# Altium footprint library SIGMA_2D.PcbLib: 200 footprints (part 12 of 13)
Each footprint in its own frame and in the unit in brackets; x right, y up, seen from the top. Pads: shape width x height; smd on the part's side, far side on the other; paste and mask are expansions set on the pad; w line width, h text height; cw(c..) or ccw(c..) is an arc to the next point about the centre after c.
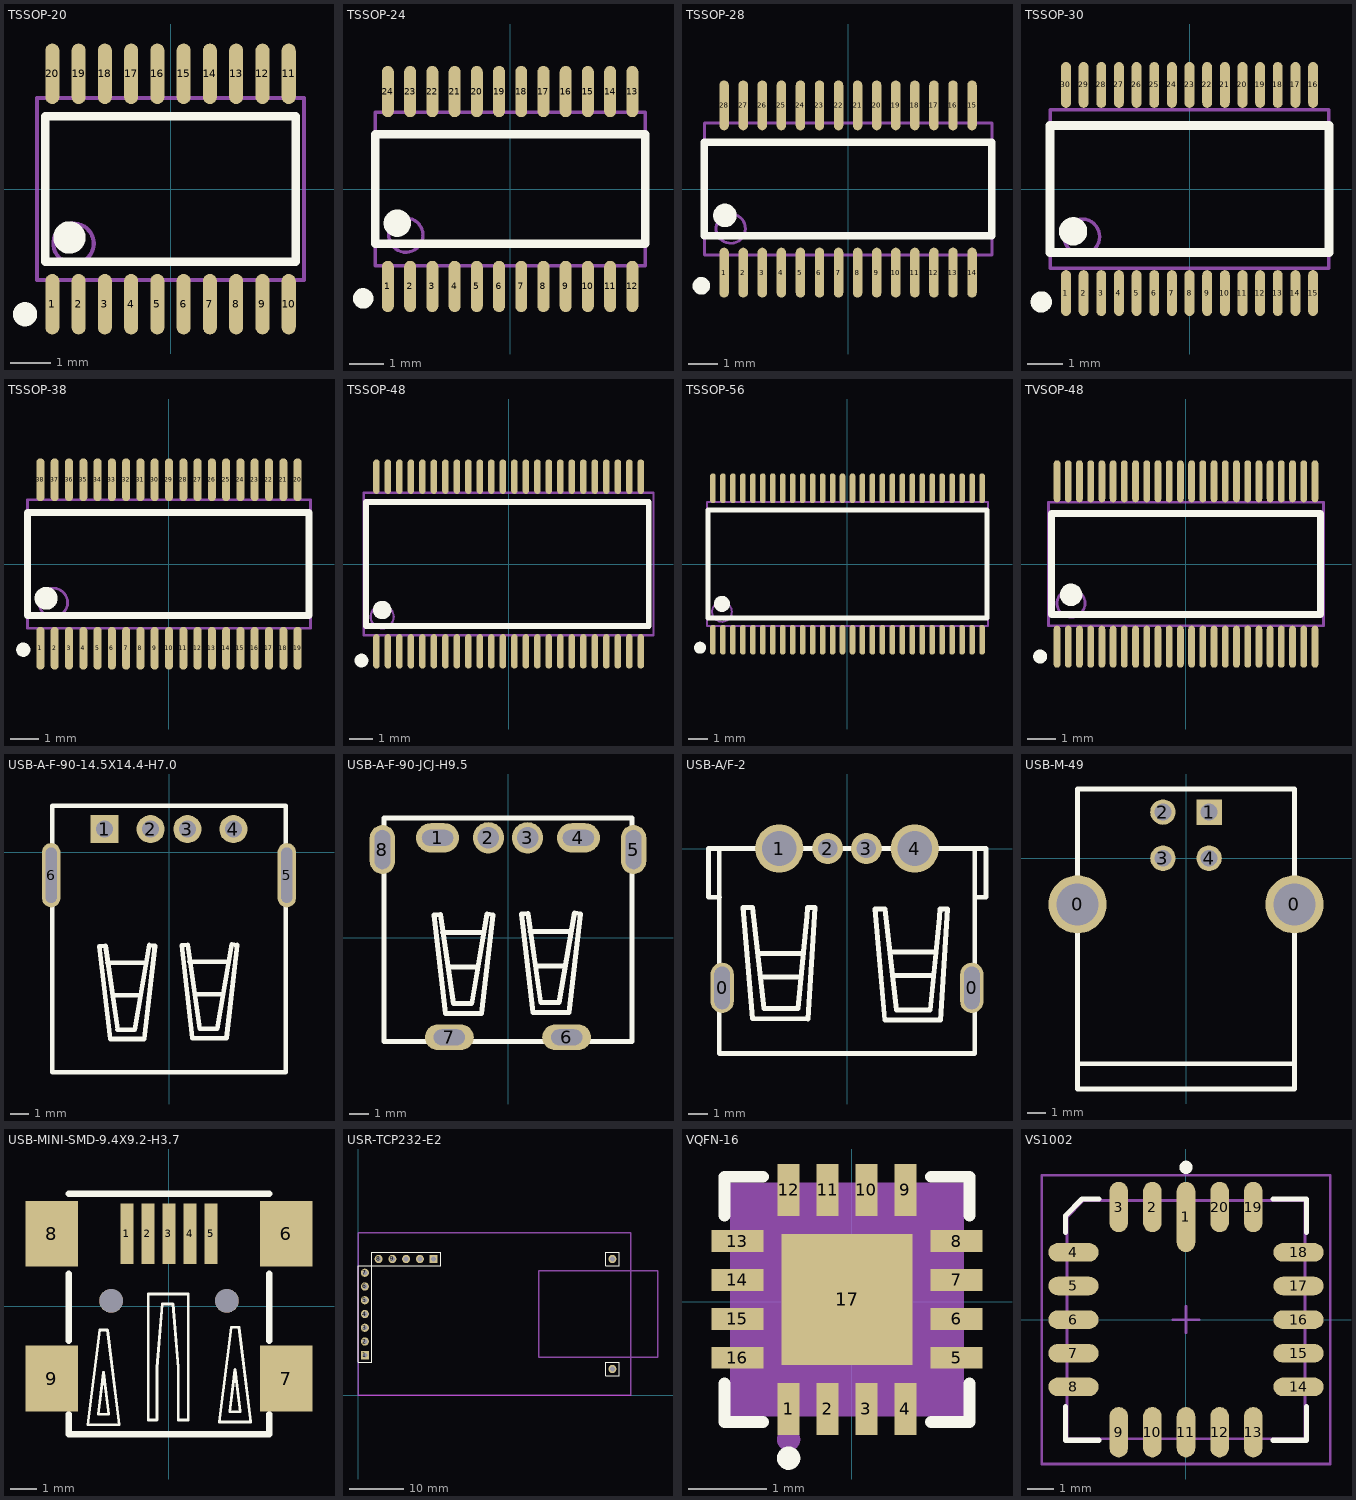
[diagram p11: the footprints below, top view; thin cyan lines are the x and y axes]

## TSSOP-20 [mm]
pads (20):
  oval 0.35x1.5 smd: 1(-2.925,-2.85) 2(-2.275,-2.85) 3(-1.625,-2.85) 4(-0.975,-2.85) 5(-0.325,-2.85) 6(0.325,-2.85) 7(0.975,-2.85) 8(1.625,-2.85) 9(2.275,-2.85) 10(2.925,-2.85) 11(2.925,2.85) 12(2.275,2.85) 13(1.625,2.85) 14(0.975,2.85) 15(0.325,2.85) 16(-0.325,2.85) 17(-0.975,2.85) 18(-1.625,2.85) 19(-2.275,2.85) 20(-2.925,2.85)
Top Overlay:
  circle w0.4: c-2.5,-1.2 r0.2
  circle w0.3: c-3.6,-3.1 r0.15
  lines w0.2: -3.1,-1.8 3.1,-1.8 3.1,1.8 -3.1,1.8 -3.1,-1.8
Mechanical 13:
  circle w0.1: c-2.4,-1.35 r0.5
  lines w0.1: -3.3,-2.25 3.3,-2.25 3.3,2.25 -3.3,2.25 -3.3,-2.25

## TSSOP-24 [mm]
pads (24):
  oval 0.35x1.5 smd: 1(-3.575,-2.85) 2(-2.925,-2.85) 3(-2.275,-2.85) 4(-1.625,-2.85) 5(-0.975,-2.85) 6(-0.325,-2.85) 7(0.325,-2.85) 8(0.975,-2.85) 9(1.625,-2.85) 10(2.275,-2.85) 11(2.925,-2.85) 12(3.575,-2.85) 13(3.575,2.85) 14(2.925,2.85) 15(2.275,2.85) 16(1.625,2.85) 17(0.975,2.85) 18(0.325,2.85) 19(-0.325,2.85) 20(-0.975,2.85) 21(-1.625,2.85) 22(-2.275,2.85) 23(-2.925,2.85) 24(-3.575,2.85)
Top Overlay:
  circle w0.3: c-4.3,-3.2 r0.15
  circle w0.4: c-3.3,-1 r0.2
  lines w0.254: -3.95,-1.6 -3.95,1.6 3.95,1.6 3.95,-1.6 -3.95,-1.6
Mechanical 13:
  circle w0.1: c-3.05,-1.35 r0.5
  lines w0.1: -3.95,-2.25 -3.95,2.25 3.95,2.25 3.95,-2.25 -3.95,-2.25

## TSSOP-28 [mm]
pads (28):
  oval 0.32x1.7 smd: 1(-4.225,-2.85) 2(-3.575,-2.85) 3(-2.925,-2.85) 4(-2.275,-2.85) 5(-1.625,-2.85) 6(-0.975,-2.85) 7(-0.325,-2.85) 8(0.325,-2.85) 9(0.975,-2.85) 10(1.625,-2.85) 11(2.275,-2.85) 12(2.925,-2.85) 13(3.575,-2.85) 14(4.225,-2.85) 15(4.225,2.85) 16(3.575,2.85) 17(2.925,2.85) 18(2.275,2.85) 19(1.625,2.85) 20(0.975,2.85) 21(0.325,2.85) 22(-0.325,2.85) 23(-0.975,2.85) 24(-1.625,2.85) 25(-2.275,2.85) 26(-2.925,2.85) 27(-3.575,2.85) 28(-4.225,2.85)
Top Overlay:
  circle w0.4: c-4.2,-0.9 r0.2
  circle w0.3: c-5,-3.3 r0.15
  lines w0.254: -4.9,-1.6 4.9,-1.6 4.9,1.6 -4.9,1.6 -4.9,-1.6
Mechanical 13:
  circle w0.1: c-4,-1.35 r0.5
  lines w0.1: -4.9,-2.25 4.9,-2.25 4.9,2.25 -4.9,2.25 -4.9,-2.25

## TSSOP-30 [mm]
pads (30):
  oval 0.28x1.3 smd mask+0.051: 1(-3.5,-2.95) 2(-3,-2.95) 3(-2.5,-2.95) 4(-2,-2.95) 5(-1.5,-2.95) 6(-1,-2.95) 7(-0.5,-2.95) 8(0,-2.95) 9(0.5,-2.95) 10(1,-2.95) 11(1.5,-2.95) 12(2,-2.95) 13(2.5,-2.95) 14(3,-2.95) 15(3.5,-2.95) 16(3.5,2.95) 17(3,2.95) 18(2.5,2.95) 19(2,2.95) 20(1.5,2.95) 21(1,2.95) 22(0.5,2.95) 23(0,2.95) 24(-0.5,2.95) 25(-1,2.95) 26(-1.5,2.95) 27(-2,2.95) 28(-2.5,2.95) 29(-3,2.95) 30(-3.5,2.95)
Top Overlay:
  circle w0.4: c-3.3,-1.2 r0.2
  circle w0.3: c-4.2,-3.2 r0.15
  lines w0.254: -3.95,-1.8 3.95,-1.8 3.95,1.8 -3.95,1.8 -3.95,-1.8
Mechanical 13:
  circle w0.1: c-3.05,-1.35 r0.5
  lines w0.1: -3.95,-2.25 3.95,-2.25 3.95,2.25 -3.95,2.25 -3.95,-2.25

## TSSOP-38 [mm]
pads (38):
  oval 0.28x1.5 smd mask+0.051: 1(-4.5,-2.95) 2(-4,-2.95) 3(-3.5,-2.95) 4(-3,-2.95) 5(-2.5,-2.95) 6(-2,-2.95) 7(-1.5,-2.95) 8(-1,-2.95) 9(-0.5,-2.95) 10(0,-2.95) 11(0.5,-2.95) 12(1,-2.95) 13(1.5,-2.95) 14(2,-2.95) 15(2.5,-2.95) 16(3,-2.95) 17(3.5,-2.95) 18(4,-2.95) 19(4.5,-2.95) 20(4.5,2.95) 21(4,2.95) 22(3.5,2.95) 23(3,2.95) 24(2.5,2.95) 25(2,2.95) 26(1.5,2.95) 27(1,2.95) 28(0.5,2.95) 29(0,2.95) 30(-0.5,2.95) 31(-1,2.95) 32(-1.5,2.95) 33(-2,2.95) 34(-2.5,2.95) 35(-3,2.95) 36(-3.5,2.95) 37(-4,2.95) 38(-4.5,2.95)
Top Overlay:
  circle w0.25: c-5.1,-3 r0.125
  circle w0.4: c-4.3,-1.2 r0.2
  lines w0.254: -4.95,-1.8 -4.95,1.8 4.9,1.8 4.9,-1.8 -4.95,-1.8
Mechanical 13:
  circle w0.1: c-4.05,-1.35 r0.5
  lines w0.1: -4.95,-2.25 -4.95,2.25 4.95,2.25 4.95,-2.25 -4.95,-2.25

## TSSOP-48 [mm]
pads (48):
  oval 0.28x1.5 smd mask+0.051: 1(-5.75,-3.8) 2(-5.25,-3.8) 3(-4.75,-3.8) 4(-4.25,-3.8) 5(-3.75,-3.8) 6(-3.25,-3.8) 7(-2.75,-3.8) 8(-2.25,-3.8) 9(-1.75,-3.8) 10(-1.25,-3.8) 11(-0.75,-3.8) 12(-0.25,-3.8) 13(0.25,-3.8) 14(0.75,-3.8) 15(1.25,-3.8) 16(1.75,-3.8) 17(2.25,-3.8) 18(2.75,-3.8) 19(3.25,-3.8) 20(3.75,-3.8) 21(4.25,-3.8) 22(4.75,-3.8) 23(5.25,-3.8) 24(5.75,-3.8) 25(5.75,3.8) 26(5.25,3.8) 27(4.75,3.8) 28(4.25,3.8) 29(3.75,3.8) 30(3.25,3.8) 31(2.75,3.8) 32(2.25,3.8) 33(1.75,3.8) 34(1.25,3.8) 35(0.75,3.8) 36(0.25,3.8) 37(-0.25,3.8) 38(-0.75,3.8) 39(-1.25,3.8) 40(-1.75,3.8) 41(-2.25,3.8) 42(-2.75,3.8) 43(-3.25,3.8) 44(-3.75,3.8) 45(-4.25,3.8) 46(-4.75,3.8) 47(-5.25,3.8) 48(-5.75,3.8)
Top Overlay:
  circle w0.3: c-6.4,-4.2 r0.15
  circle w0.4: c-5.5,-2 r0.2
  lines w0.254: -6.2,-2.7 6.1,-2.7 6.1,2.7 -6.2,2.7 -6.2,-2.7
Mechanical 13:
  circle w0.1: c-5.5,-2.3 r0.5
  lines w0.1: -6.3,-3.1 -6.3,3.1 6.3,3.1 6.3,-3.1 -6.3,-3.1

## TSSOP-56 [mm]
pads (56):
  oval 0.28x1.5 smd mask+0.051: 1(-6.75,-3.8) 2(-6.25,-3.8) 3(-5.75,-3.8) 4(-5.25,-3.8) 5(-4.75,-3.8) 6(-4.25,-3.8) 7(-3.75,-3.8) 8(-3.25,-3.8) 9(-2.75,-3.8) 10(-2.25,-3.8) 11(-1.75,-3.8) 12(-1.25,-3.8) 13(-0.75,-3.8) 14(-0.25,-3.8) 15(0.25,-3.8) 16(0.75,-3.8) 17(1.25,-3.8) 18(1.75,-3.8) 19(2.25,-3.8) 20(2.75,-3.8) 21(3.25,-3.8) 22(3.75,-3.8) 23(4.25,-3.8) 24(4.75,-3.8) 25(5.25,-3.8) 26(5.75,-3.8) 27(6.25,-3.8) 28(6.75,-3.8) 29(6.75,3.8) 30(6.25,3.8) 31(5.75,3.8) 32(5.25,3.8) 33(4.75,3.8) 34(4.25,3.8) 35(3.75,3.8) 36(3.25,3.8) 37(2.75,3.8) 38(2.25,3.8) 39(1.75,3.8) 40(1.25,3.8) 41(0.75,3.8) 42(0.25,3.8) 43(-0.25,3.8) 44(-0.75,3.8) 45(-1.25,3.8) 46(-1.75,3.8) 47(-2.25,3.8) 48(-2.75,3.8) 49(-3.25,3.8) 50(-3.75,3.8) 51(-4.25,3.8) 52(-4.75,3.8) 53(-5.25,3.8) 54(-5.75,3.8) 55(-6.25,3.8) 56(-6.75,3.8)
Top Overlay:
  circle w0.3: c-7.4,-4.2 r0.15
  circle w0.4: c-6.3,-2 r0.2
  lines w0.254: -7,-2.7 -7,2.7 7,2.7 7,-2.7 -7,-2.7
Mechanical 13:
  circle w0.1: c-6.3,-2.4 r0.5
  lines w0.1: -7.05,-3.1 -7.05,3.1 7.05,3.1 7.05,-3.1 -7.05,-3.1

## TVSOP-48 [mm]
pads (48):
  oval 0.24x1.5 smd mask+0.051: 1(-4.6,-2.95) 2(-4.2,-2.95) 3(-3.8,-2.95) 4(-3.4,-2.95) 5(-3,-2.95) 6(-2.6,-2.95) 7(-2.2,-2.95) 8(-1.8,-2.95) 9(-1.4,-2.95) 10(-1,-2.95) 11(-0.6,-2.95) 12(-0.2,-2.95) 13(0.2,-2.95) 14(0.6,-2.95) 15(1,-2.95) 16(1.4,-2.95) 17(1.8,-2.95) 18(2.2,-2.95) 19(2.6,-2.95) 20(3,-2.95) 21(3.4,-2.95) 22(3.8,-2.95) 23(4.2,-2.95) 24(4.6,-2.95) 25(4.6,2.95) 26(4.2,2.95) 27(3.8,2.95) 28(3.4,2.95) 29(3,2.95) 30(2.6,2.95) 31(2.2,2.95) 32(1.8,2.95) 33(1.4,2.95) 34(1,2.95) 35(0.6,2.95) 36(0.2,2.95) 37(-0.2,2.95) 38(-0.6,2.95) 39(-1,2.95) 40(-1.4,2.95) 41(-1.8,2.95) 42(-2.2,2.95) 43(-2.6,2.95) 44(-3,2.95) 45(-3.4,2.95) 46(-3.8,2.95) 47(-4.2,2.95) 48(-4.6,2.95)
Top Overlay:
  circle w0.25: c-5.2,-3.3 r0.125
  circle w0.4: c-4.1,-1.1 r0.2
  lines w0.254: -4.8,-1.8 4.8,-1.8 4.8,1.8 -4.8,1.8 -4.8,-1.8
Mechanical 13:
  circle w0.1: c-4.1,-1.4 r0.5
  lines w0.1: -4.9,-2.2 -4.9,2.2 4.9,2.2 4.9,-2.2 -4.9,-2.2

## USB-A-F-90-14.5X14.4-H7.0 [mm]
pads (6):
  rect 1.524x1.524 hole 0.92: 1(-3.5,1.25)
  round 1.524 hole 0.92: 2(-1,1.25) 3(1,1.25) 4(3.5,1.25)
  oval 1x3.5 hole 0.6 slot 3 at 90 deg: 5(6.4,-1.25) 6(-6.4,-1.25)
Top Overlay:
  lines w0.254: -3.353,-6.014 -1.27,-6.014 ; -3.023,-7.767 -1.575,-7.767 ; 1.118,-5.964 3.2,-5.964 ; 1.448,-7.716 2.896,-7.716 ; -6.35,-11.958 6.35,-11.958 6.35,2.52 -6.35,2.52 -6.35,-11.958 ; -3.782,-5.108 -3.449,-5.082 -2.794,-9.647 -1.854,-9.647 -1.067,-5.049 -0.762,-5.1 -1.346,-10.155 -3.2,-10.155 -3.782,-5.108 ; 0.688,-5.057 1.27,-10.104 3.124,-10.104 3.708,-5.049 3.404,-4.998 2.616,-9.596 1.676,-9.596 1.021,-5.031 0.688,-5.057

## USB-A-F-90-JCJ-H9.5 [mm]
pads (8):
  oval 2.2x1.5 hole 0.8 slot 1.6 at 0 deg: 1(-3.6,5.1) 4(3.6,5.1)
  round 1.6 hole 1.1: 2(-1,5.1) 3(1,5.1)
  oval 1.3x2.5 hole 0.8 slot 2 at 90 deg: 5(6.42,4.5) 8(-6.42,4.5)
  oval 2.5x1.3 hole 0.8 slot 1.6 at 0 deg: 6(3,-5.1) 7(-3,-5.1)
Top Overlay:
  lines w0.254: -3.353,0.249 -1.27,0.249 ; -3.023,-1.504 -1.575,-1.504 ; 1.118,0.299 3.2,0.299 ; 1.448,-1.453 2.896,-1.453 ; -6.35,-5.314 -6.35,6.116 6.35,6.116 6.35,-5.314 -6.35,-5.314 ; -3.782,1.155 -3.2,-3.892 -1.346,-3.892 -0.762,1.163 -1.067,1.214 -1.854,-3.384 -2.794,-3.384 -3.449,1.181 -3.782,1.155 ; 0.688,1.206 1.021,1.232 1.676,-3.333 2.616,-3.333 3.404,1.265 3.708,1.214 3.124,-3.841 1.27,-3.841 0.688,1.206

## USB-A/F-2 [mm]
pads (6):
  oval 1.2x2.6 hole 0.8 slot 2.2 at 90 deg: 0(-6.45,-7.2) 0(6.45,-7.2)
  round 2.5 hole 1.8: 1(-3.5,0) 4(3.5,0)
  round 1.6 hole 1: 2(-1,0) 3(1,0)
Top Overlay:
  lines w0.254: -7.16,0 -7.16,-2.52 -6.58,-2.52 ; -7.15,0 7.15,0 ; -6.6,0 -6.6,-10.6 6.6,-10.6 6.6,0 ; -4.546,-5.419 -2.286,-5.419 ; -4.406,-6.629 -2.376,-6.629 ; 2.304,-5.348 4.564,-5.348 ; 2.444,-6.558 4.474,-6.558 ; 6.6,-2.52 7.18,-2.52 7.18,0 ; -5.384,-3.052 -4.889,-8.787 -2.005,-8.798 -1.655,-3.055 -2.036,-3.055 -2.066,-3.485 -2.54,-8.264 -4.289,-8.274 -4.365,-7.596 -4.875,-3.056 -5.384,-3.052 ; 1.456,-3.122 1.951,-8.857 4.834,-8.868 5.184,-3.125 4.804,-3.125 4.774,-3.555 4.3,-8.333 2.55,-8.344 2.475,-7.666 1.964,-3.126 1.456,-3.122

## USB-M-49 [mm]
pads (6):
  round 3.2 hole 2.3: 0(-5.969,-2.54) 0(5.969,-2.54)
  rect 1.4x1.4 hole 0.92: 1(1.27,2.54)
  round 1.4 hole 0.92: 2(-1.27,2.54) 3(-1.27,0) 4(1.27,0)
Top Overlay:
  lines w0.254: -5.969,-11.303 5.969,-11.303 ; -5.969,-3.302 -5.969,-12.7 5.969,-12.7 5.969,-3.175 ; -5.969,-1.778 -5.969,3.81 5.969,3.81 5.969,-1.778

## USB-MINI-SMD-9.4X9.2-H3.7 [mm]
pads (11):
  rect 0.5x2.3 smd: 1(-1.6,2.75) 2(-0.8,2.75) 3(0,2.75) 4(0.8,2.75) 5(1.6,2.75)
  rect 2x2.5 smd: 6(4.45,2.75) 7(4.45,-2.75) 8(-4.45,2.75) 9(-4.45,-2.75)
  round 0.9 hole 0.9 unplated: ""(-2.2,0.2) ""(2.2,0.2)
Top Overlay:
  lines w0.102: -3.086,-4.507 -1.887,-4.507 -2.337,-0.908 -2.637,-0.908 -3.086,-4.507 ; -2.687,-4.108 -2.286,-4.108 -2.487,-2.508 -2.687,-4.108 ; -0.79,-4.329 -0.457,-4.329 -0.457,-2.33 -0.254,0.083 0.153,0.083 0.356,-2.33 0.356,-4.329 0.737,-4.329 0.737,0.464 -0.762,0.464 -0.79,0.464 -0.79,-4.329 ; 1.91,-4.405 3.109,-4.405 2.659,-0.806 2.36,-0.806 1.91,-4.405 ; 2.309,-4.006 2.71,-4.006 2.509,-2.406 2.309,-4.006
  lines w0.254: -3.81,-4.108 -3.81,-4.87 3.81,-4.87 3.81,-4.108 ; -3.81,-1.314 -3.81,1.226 ; -3.81,4.274 0,4.274 3.81,4.274 ; 3.81,-1.314 3.81,1.226

## USR-TCP232-E2 [mm]
pads (14):
  rect 1.5x1.5 hole 0.9: 1(1.27,7.366) 12(13.97,25.146)
  round 1.5 hole 0.9: 2(1.27,9.906) 3(1.27,12.446) 4(1.27,14.986) 5(1.27,17.526) 6(1.27,20.066) 7(1.27,22.606) 8(3.81,25.146) 9(6.35,25.146) 10(8.89,25.146) 11(11.43,25.146) 13(46.99,25.146) 14(46.99,4.826)
Top Overlay:
  lines w0.2: 2.54,23.876 2.54,26.416 15.24,26.416 15.24,23.876 2.54,23.876 ; 2.54,23.876 0,23.876 0,6.096 2.54,6.096 2.54,23.876 ; 45.796,3.556 45.796,6.096 48.209,6.096 48.209,3.556 45.796,3.556 ; 45.796,23.876 48.209,23.876 48.209,26.416 45.796,26.416 45.796,23.876
Keep-Out Layer:
  lines w0.152: 0,0 50.47,0
Mechanical 13:
  lines w0.254: 0,0 50.419,0 50.419,29.972 0,29.972 0,0 ; 33.412,6.985 55.408,6.985 55.408,22.987 33.412,22.987 33.412,6.985

## VQFN-16 [mm]
pads (17):
  rect 0.28x0.665 smd: 1(-0.813,-1.375) 2(-0.313,-1.375) 3(0.187,-1.375) 4(0.687,-1.375) 9(0.687,1.44) 10(0.187,1.44) 11(-0.313,1.44) 12(-0.813,1.44)
  rect 0.665x0.28 smd: 5(1.344,-0.718) 6(1.344,-0.218) 7(1.344,0.282) 8(1.344,0.782) 13(-1.471,0.782) 14(-1.471,0.282) 15(-1.471,-0.218) 16(-1.471,-0.718)
  rect 1.68x1.68 smd: 17(-0.063,0.032)
Top Overlay:
  circle w0.15: c-0.813,-2.008 r0.075
  lines w0.152: -1.64,-1.048 -1.64,-1.544 -1.144,-1.544 ; -1.64,1.113 -1.64,1.608 -1.144,1.608 ; 1.017,-1.544 1.513,-1.544 1.513,-1.048 ; 1.017,1.608 1.513,1.608 1.513,1.113
Mechanical 4:
  region: -1.563,-1.468 -1.563,1.532 1.437,1.532 1.437,-1.468
Mechanical 5:
  region: -0.903,-0.64 -0.903,0.872 0.777,0.872 0.777,-0.808 -0.735,-0.808
  region: -1.163,-0.838 -1.163,-0.598 -1.563,-0.598 -1.563,-0.838
  region: -1.163,-0.338 -1.163,-0.098 -1.563,-0.098 -1.563,-0.338
  region: -1.163,0.162 -1.163,0.402 -1.563,0.402 -1.563,0.162
  region: -1.163,0.662 -1.163,0.902 -1.563,0.902 -1.563,0.662
  region: -0.933,1.532 -0.933,1.132 -0.693,1.132 -0.693,1.532
  region: -0.433,1.532 -0.433,1.132 -0.193,1.132 -0.193,1.532
  region: 0.067,1.532 0.067,1.132 0.307,1.132 0.307,1.532
  region: 0.567,1.532 0.567,1.132 0.807,1.132 0.807,1.532
  region: 1.037,0.662 1.037,0.902 1.437,0.902 1.437,0.662
  region: 1.037,0.162 1.037,0.402 1.437,0.402 1.437,0.162
  region: 1.037,-0.338 1.037,-0.098 1.437,-0.098 1.437,-0.338
  region: 1.037,-0.838 1.037,-0.598 1.437,-0.598 1.437,-0.838
  region: 0.567,-1.468 0.567,-1.068 0.807,-1.068 0.807,-1.468
  region: 0.067,-1.468 0.067,-1.068 0.307,-1.068 0.307,-1.468
  region: -0.433,-1.468 -0.433,-1.068 -0.193,-1.068 -0.193,-1.468
  region: -0.933,-1.468 -0.933,-1.068 -0.693,-1.068 -0.693,-1.468
Mechanical 6:
  circle w0.06: c-1.563,-1.468 r0.03
Mechanical 15:
  circle w0.15: c-0.813,-1.768 r0.075

## VS1002 [mm] "LCC, 20-Pins, Body 9.1x9.1mm (max), Pitch 1.27mm, IPC Medium Density"
height 3.24
pads (20):
  oval 0.7x2.65 smd: 1(0,3.875)
  oval 0.7x1.9 smd: 2(-1.27,4.25) 3(-2.54,4.25) 9(-2.54,-4.25) 10(-1.27,-4.25) 11(0,-4.25) 12(1.27,-4.25) 13(2.54,-4.25) 19(2.54,4.25) 20(1.27,4.25)
  oval 1.9x0.7 smd: 4(-4.25,2.54) 5(-4.25,1.27) 6(-4.25,0) 7(-4.25,-1.27) 8(-4.25,-2.54) 14(4.25,-2.54) 15(4.25,-1.27) 16(4.25,0) 17(4.25,1.27) 18(4.25,2.54)
Top Overlay:
  circle w0.25: c0,5.75 r0.125
  lines w0.2: -4.55,-3.29 -4.55,-4.55 -3.29,-4.55 ; -4.55,3.29 -4.55,3.92 -3.92,4.55 -3.29,4.55 ; 3.29,-4.55 4.55,-4.55 4.55,-3.29 ; 3.29,4.55 4.55,4.55 4.55,3.29
Mechanical 13:
  lines w0.1: -4.495,-4.495 -4.495,3.865 -3.865,4.495 4.495,4.495 4.495,-4.495 -4.495,-4.495
Mechanical 15:
  lines w0.1: -0.5,0 0.5,0 ; 0,-0.5 0,0.5 ; -5.45,-5.45 -5.45,5.45 5.45,5.45 5.45,-5.45 -5.45,-5.45